# Altium footprint library LED_SMD.PcbLib: 91 footprints (part 4 of 6)
Each footprint in its own frame and in the unit in brackets; x right, y up, seen from the top. Pads: shape width x height; smd on the part's side, far side on the other; paste and mask are expansions set on the pad; w line width, h text height; cw(c..) or ccw(c..) is an arc to the next point about the centre after c.
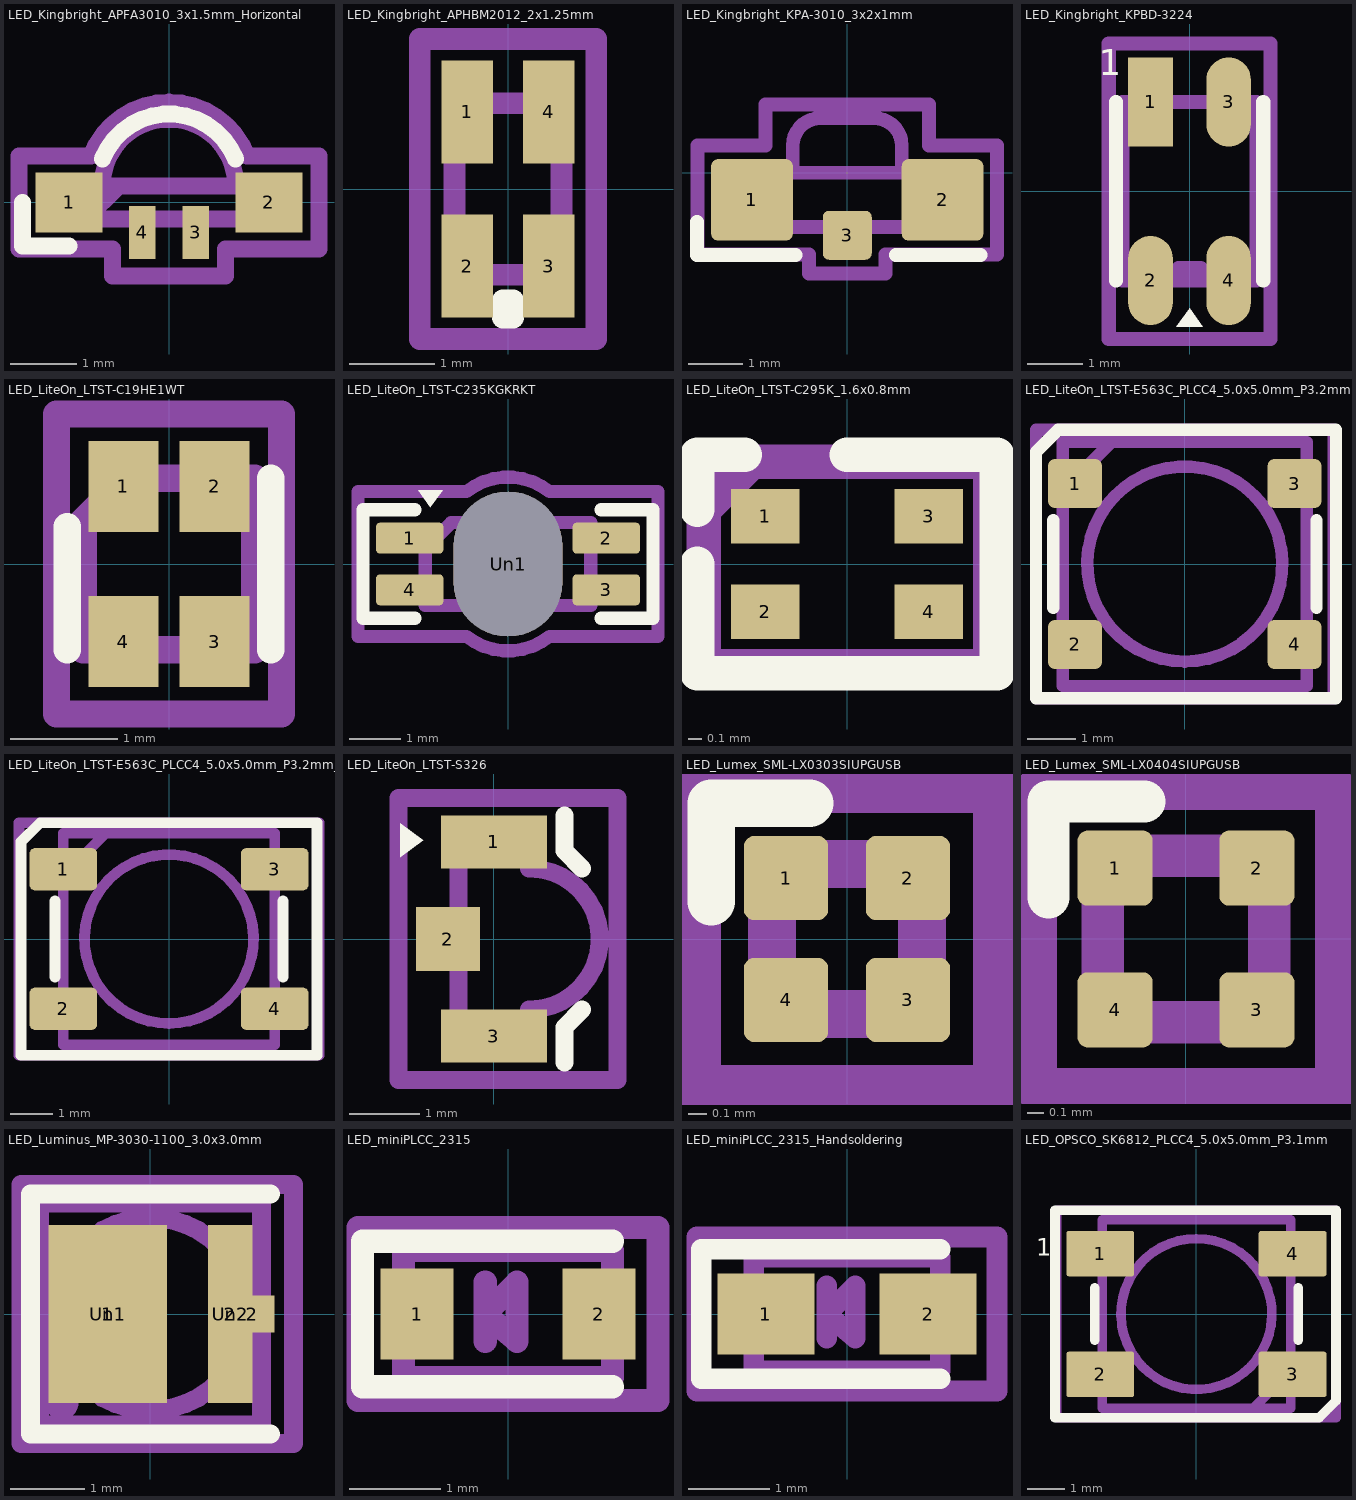
[diagram p3: the footprints below, top view; thin cyan lines are the x and y axes]

## LED_Kingbright_APFA3010_3x1.5mm_Horizontal [mm]
pads (4):
  rect 1x0.9 smd: 1(-1.5,0) 2(1.5,0)
  rect 0.4x0.8 smd: 3(0.4,-0.45) 4(-0.4,-0.45)
F.SilkS:
  lines w0.254: -2.2,0 -2.2,-0.65 -1.5,-0.65 ; -1,0.65 cw(c0,0.25) 1,0.65
F.CrtYd:
  lines w0.254: -2.25,-0.7 -2.25,0.7 -1.17,0.7 cw(c0,0.25) 1.17,0.7 2.25,0.7 2.25,-0.7 0.85,-0.7 0.85,-1.1 -0.85,-1.1 -0.85,-0.7 -2.25,-0.7
F.Fab:
  lines w0.254: -1.25,-0.25 -0.75,0.25 ; -1,0.25 cw(c0,0.25) 1,0.25 ; -1.5,-0.25 -1.5,0.25 1.5,0.25 1.5,-0.25 -1.5,-0.25
  text "'.Designator'" at -0.431,-0.119 h0.3

## LED_Kingbright_APHBM2012_2x1.25mm [mm]
pads (4):
  rect 0.6x1.2 smd: 1(-0.475,0.9) 2(-0.475,-0.9) 3(0.475,-0.9) 4(0.475,0.9)
F.SilkS:
  lines w0.254: -0.06,-1.5 -0.06,-1.3 0.06,-1.3 0.06,-1.5 -0.06,-1.5
F.CrtYd:
  lines w0.254: -1.03,-1.75 -1.03,1.75 1.03,1.75 1.03,-1.75 -1.03,-1.75
F.Fab:
  lines w0.254: -0.625,-1 -0.625,0.7 -0.325,1 0.625,1 0.625,-1 -0.625,-1
  text "'.Designator'" at -1.289,2.102 h1

## LED_Kingbright_KPA-3010_3x2x1mm [mm]
pads (3):
  rrect17% 1.5x1.5 smd: 1(-1.75,-0.5) 2(1.75,-0.5)
  rrect25% 0.9x0.9 smd: 3(0,-1.15)
F.SilkS:
  lines w0.254: -2.76,-0.9 -2.76,-1.51 -0.95,-1.51 ; 0.895,-1.51 2.45,-1.51
F.CrtYd:
  lines w0.254: -2.75,-1.5 -2.75,0.5 -1.5,0.5 -1.5,1.25 1.5,1.25 1.5,0.5 2.75,0.5 2.75,-1.5 0.7,-1.5 0.7,-1.85 -0.7,-1.85 -0.7,-1.5 -2.75,-1.5
F.Fab:
  lines w0.254: -1.2,-1 -1.2,0 ; -1,0 -1,0.5 cw(c-0.5,0.5) -0.5,1 0.5,1 cw(c0.5,0.5) 1,0.5 1,0 ; -1.5,-1 -1.5,0 1.5,0 1.5,-1 -1.5,-1
  text "'.Designator'" at -0.719,-0.699 h0.5

## LED_Kingbright_KPBD-3224 [mm]
pads (4):
  rect 0.8x1.6 smd: 1(-0.7,1.6)
  rrect100% 0.8x1.6 smd: 2(-0.7,-1.6) 3(0.7,1.6) 4(0.7,-1.6)
F.SilkS:
  region: 0.24,-2.43 -0.24,-2.43 0,-2.1
  lines w0.254: -1.32,-1.6 -1.32,1.6 ; 1.32,-1.6 1.32,1.6
  text "1" at -1.628,1.929 h0.8
F.CrtYd:
  lines w0.254: -1.45,-2.65 -1.45,2.65 1.45,2.65 1.45,-2.65 -1.45,-2.65
F.Fab:
  region: 0.2,-1.6 -0.2,-1.6 -0.2,-1.375 0.2,-1.375
  lines w0.254: -1.2,-1.6 -1.2,1.6 1.2,1.6 1.2,-1.6 -1.2,-1.6 ; -0.2,-1.6 -0.2,-1.375 0.2,-1.375 0.2,-1.6 -0.2,-1.6
  text "'.Designator'" at 0.229,-0.958 h0.7

## LED_LiteOn_LTST-C19HE1WT [mm]
pads (4):
  rect 0.65x0.85 smd: 1(-0.425,0.725) 2(0.425,0.725) 3(0.425,-0.725) 4(-0.425,-0.725)
F.SilkS:
  lines w0.254: -0.95,-0.8 -0.95,0.35 ; 0.95,-0.8 0.95,0.8
F.CrtYd:
  lines w0.254: -1.05,-1.4 -1.05,1.4 1.05,1.4 1.05,-1.4 -1.05,-1.4
F.Fab:
  lines w0.254: -0.8,-0.8 -0.8,0.4 -0.4,0.8 0.8,0.8 0.8,-0.8 -0.8,-0.8
  text "'.Designator'" at -0.431,-0.119 h0.3

## LED_LiteOn_LTST-C235KGKRKT [mm]
pads (5):
  rrect25% 1.3x0.6 smd: 1(-1.9,0.5) 2(1.9,0.5) 3(1.9,-0.5) 4(-1.9,-0.5)
  rrect100% 2.1x2.8 hole 2.8 slot 2.1 at 0 deg: Un1(0,0)
F.SilkS:
  region: -1.5,1.1 -1.74,1.43 -1.26,1.43
  lines w0.254: -1.8,-1.05 -2.8,-1.05 -2.8,1.05 -1.8,1.05 ; 1.8,-1.05 2.8,-1.05 2.8,1.05 1.8,1.05
F.CrtYd:
  lines w0.254: -2.9,-1.4 -2.9,1.4 -0.8,1.4 cw(c0,0.4) 0.8,1.4 2.9,1.4 2.9,-1.4 0.8,-1.4 cw(c0,-0.4) -0.8,-1.4 -2.9,-1.4
F.Fab:
  lines w0.254: -1.6,-0.8 -1.6,0.3 -1.1,0.8 1.6,0.8 1.6,-0.8 -1.6,-0.8 ; -0.8,-0.75 -0.8,0.75 0.8,0.75 0.8,-0.75 -0.8,-0.75
  text "'.Designator'" at -0.719,-0.199 h0.5

## LED_LiteOn_LTST-C295K_1.6x0.8mm [mm]
pads (4):
  rect 0.5x0.4 smd: 1(-0.6,0.35) 2(-0.6,-0.35) 3(0.6,0.35) 4(0.6,-0.35)
F.SilkS:
  lines w0.254: -1.1,0 -1.1,-0.8 1.1,-0.8 1.1,0.8 0,0.8 ; -1.1,0.4 -1.1,0.8 -0.75,0.8
F.CrtYd:
  lines w0.254: -1.05,-0.75 -1.05,0.75 1.05,0.75 1.05,-0.75 -1.05,-0.75
F.Fab:
  lines w0.254: -1.05,-0.75 -1.05,0.4 -0.7,0.75 1.05,0.75 1.05,-0.75 -1.05,-0.75
  text "'.Designator'" at -0.719,-0.199 h0.5

## LED_LiteOn_LTST-E563C_PLCC4_5.0x5.0mm_P3.2mm [mm]
pads (4):
  rrect25% 1.1x1 smd: 1(-2.25,1.65) 2(-2.25,-1.65) 3(2.25,1.65) 4(2.25,-1.65)
F.SilkS:
  lines w0.254: -2.7,-0.9 -2.7,0.9 ; 2.7,-0.9 2.7,0.9 ; -3.05,-2.75 -3.05,2.3 -2.6,2.75 3.1,2.75 3.1,-2.75 -3.05,-2.75
F.CrtYd:
  lines w0.254: -3.05,-2.75 -3.05,2.75 3.05,2.75 3.05,-2.75 -3.05,-2.75
F.Fab:
  circle w0.254: c0,0 r2
  lines w0.254: -2.5,1.5 -1.5,2.5 ; -2.5,-2.5 -2.5,2.5 2.5,2.5 2.5,-2.5 -2.5,-2.5
  text "'.Designator'" at -1.15,-0.319 h0.8

## LED_LiteOn_LTST-E563C_PLCC4_5.0x5.0mm_P3.2mm_HandSoldering [mm]
pads (4):
  rrect25% 1.6x1 smd: 1(-2.5,1.65) 2(-2.5,-1.65) 3(2.5,1.65) 4(2.5,-1.65)
F.SilkS:
  lines w0.254: -2.7,-0.9 -2.7,0.9 ; 2.7,-0.9 2.7,0.9 ; -3.5,-2.75 -3.5,2.3 -3.05,2.75 3.5,2.75 3.5,-2.75 -3.5,-2.75
F.CrtYd:
  lines w0.254: -3.55,-2.75 -3.55,2.75 3.55,2.75 3.55,-2.75 -3.55,-2.75
F.Fab:
  circle w0.254: c0,0 r2
  lines w0.254: -2.5,1.5 -1.5,2.5 ; -2.5,-2.5 -2.5,2.5 2.5,2.5 2.5,-2.5 -2.5,-2.5
  text "'.Designator'" at -1.15,-0.319 h0.8

## LED_LiteOn_LTST-S326 [mm]
pads (3):
  rect 1.5x0.75 smd: 1(0,1.375) 3(0,-1.375)
  rect 0.9x0.9 smd: 2(-0.65,0)
F.SilkS:
  region: -1,1.4 -1.33,1.16 -1.33,1.64
  lines w0.254: 1,-1.75 1,-1.25 1.25,-1 ; 1,1.75 1,1.25 1.25,1
F.CrtYd:
  lines w0.254: -1.35,-2 -1.35,2 1.75,2 1.75,-2 -1.35,-2
F.Fab:
  lines w0.254: -0.5,-1.5 -0.5,1.5 0.5,1.5 0.5,1 cw(c0.5,0) 0.5,-1 0.5,-1.5 -0.5,-1.5
  text "'.Designator'" at -1.15,-0.319 h0.8

## LED_Lumex_SML-LX0303SIUPGUSB [mm]
pads (4):
  rrect25% 0.45x0.45 smd: 1(-0.325,0.325) 2(0.325,0.325) 3(0.325,-0.325) 4(-0.325,-0.325)
F.SilkS:
  lines w0.254: -0.725,0.2 -0.725,0.725 -0.2,0.725
F.CrtYd:
  lines w0.254: -0.8,-0.8 -0.8,0.8 0.8,0.8 0.8,-0.8 -0.8,-0.8
F.Fab:
  lines w0.254: -0.4,-0.4 -0.4,0.2 -0.2,0.4 0.4,0.4 0.4,-0.4 -0.4,-0.4
  text "'.Designator'" at -0.719,0.801 h0.5

## LED_Lumex_SML-LX0404SIUPGUSB [mm]
pads (4):
  rrect25% 0.45x0.45 smd: 1(-0.425,0.425) 2(0.425,0.425) 3(0.425,-0.425) 4(-0.425,-0.425)
F.SilkS:
  lines w0.254: -0.825,0.25 -0.825,0.825 -0.25,0.825
F.CrtYd:
  lines w0.254: -0.9,-0.9 -0.9,0.9 0.9,0.9 0.9,-0.9 -0.9,-0.9
F.Fab:
  lines w0.254: -0.5,-0.5 -0.5,0.25 -0.25,0.5 0.5,0.5 0.5,-0.5 -0.5,-0.5
  text "'.Designator'" at -0.719,0.801 h0.5

## LED_Luminus_MP-3030-1100_3.0x3.0mm [mm]
pads (5):
  rect 1.6x2.4 smd: 1(-0.575,0)
  rect 0.6x2.4 smd: 2(1.075,0)
  rect 0.6x0.5 smd: 2(1.375,0)
  rect 1.3x1.9 on Top Paste: Un1(-0.575,0)
  rect 0.4x1.9 on Top Paste: Un2(1.075,0)
F.SilkS:
  lines w0.254: 1.62,-1.62 -1.62,-1.62 -1.62,1.62 1.62,1.62
F.CrtYd:
  lines w0.254: -1.75,-1.75 -1.75,1.75 1.93,1.75 1.93,-1.75 -1.75,-1.75
F.Fab:
  circle w0.254: c-1.2,-1.2 r0.1
  circle w0.254: c0,0 r1.3
  lines w0.254: -1.5,-1.5 -1.5,1.5 1.5,1.5 1.5,-1.5 -1.5,-1.5
  text "'.Designator'" at -0.862,-0.239 h0.6

## LED_miniPLCC_2315 [mm]
pads (2):
  rect 0.8x1 smd: 1(-1,0) 2(1,0)
F.SilkS:
  lines w0.254: 1.15,-0.8 -1.6,-0.8 -1.6,0.8 1.15,0.8
F.CrtYd:
  lines w0.254: -1.65,-0.95 -1.65,0.95 1.65,0.95 1.65,-0.95 -1.65,-0.95
F.Fab:
  lines w0.254: -0.25,-0.3 -0.25,0.35 ; -1.15,-0.7 -1.15,0.7 1.15,0.7 1.15,-0.7 -1.15,-0.7 ; -0.25,0 0.1,-0.3 0.1,0.35 -0.25,0

## LED_miniPLCC_2315_Handsoldering [mm]
pads (2):
  rect 1.2x1 smd: 1(-1,0) 2(1,0)
F.SilkS:
  lines w0.254: 1.15,-0.8 -1.8,-0.8 -1.8,0.8 1.15,0.8
F.CrtYd:
  lines w0.254: -1.85,-0.95 -1.85,0.95 1.85,0.95 1.85,-0.95 -1.85,-0.95
F.Fab:
  lines w0.254: -0.25,-0.3 -0.25,0.35 ; -1.15,-0.7 -1.15,0.7 1.15,0.7 1.15,-0.7 -1.15,-0.7 ; -0.25,0 0.1,-0.3 0.1,0.35 -0.25,0

## LED_OPSCO_SK6812_PLCC4_5.0x5.0mm_P3.1mm [mm]
pads (4):
  rrect10% 1.8x1.2 smd: 1(-2.55,1.6) 2(-2.55,-1.6) 3(2.55,-1.6) 4(2.55,1.6)
F.SilkS:
  lines w0.254: -2.7,-0.7 -2.7,0.7 ; 2.7,-0.7 2.7,0.7 ; -3.75,-2.75 -3.75,2.75 3.7,2.75 3.7,-2.3 3.25,-2.75 -3.75,-2.75
  text "1" at -4.253,1.379 h0.8
F.CrtYd:
  lines w0.254: -3.7,-2.75 -3.7,2.75 3.7,2.75 3.7,-2.75 -3.7,-2.75
F.Fab:
  circle w0.254: c0,0 r2
  lines w0.254: 1.5,-2.5 2.5,-1.5 ; -2.5,-2.5 -2.5,2.5 2.5,2.5 2.5,-2.5 -2.5,-2.5
  text "'.Designator'" at -1.15,-0.319 h0.8